# Altium schematic symbol library UBC Rocket Schematic Library.SchLib: 1 symbol
Pins are listed as number, name and electrical type; pins without a type are passive.

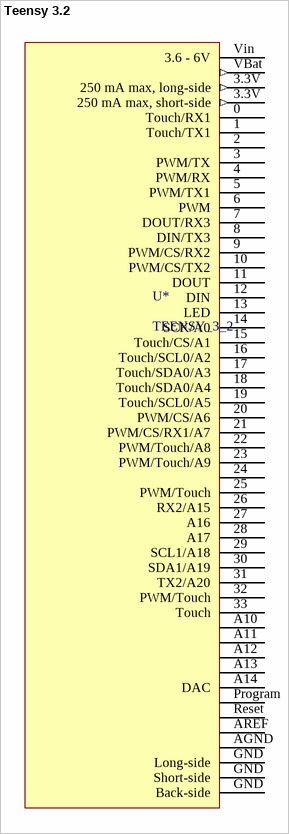
[diagram p0: symbol Teensy 3.2]

## Teensy 3.2
designator U*, comment TEENSY_3_2
pins: 0 Touch/RX1, 1 Touch/TX1, 2, 3 PWM/TX, 3.3V 250 mA max, long-side (out), 3.3V 250 mA max, short-side (out), 4 PWM/RX, 5 PWM/TX1, 6 PWM, 7 DOUT/RX3, 8 DIN/TX3, 9 PWM/CS/RX2, 10 PWM/CS/TX2, 11 DOUT, 12 DIN, 13 LED, 14 SCK/A0, 15 Touch/CS/A1, 16 Touch/SCL0/A2, 17 Touch/SDA0/A3, 18 Touch/SDA0/A4, 19 Touch/SCL0/A5, 20 PWM/CS/A6, 21 PWM/CS/RX1/A7, 22 PWM/Touch/A8, 23 PWM/Touch/A9, 24, 25 PWM/Touch, 26 RX2/A15, 27 A16, 28 A17, 29 SCL1/A18, 30 SDA1/A19, 31 TX2/A20, 32 PWM/Touch, 33 Touch, A10, A11, A12, A13, A14 DAC, AGND, AREF, GND Long-side, GND Short-side, GND Back-side, Program, Reset, VBat (out), Vin 3.6 - 6V (power)